# Altium footprint library MyLibrary.PcbLib: 365 footprints (part 10 of 23)
Each footprint in its own frame and in the unit in brackets; x right, y up, seen from the top. Pads: shape width x height; smd on the part's side, far side on the other; paste and mask are expansions set on the pad; w line width, h text height; cw(c..) or ccw(c..) is an arc to the next point about the centre after c.
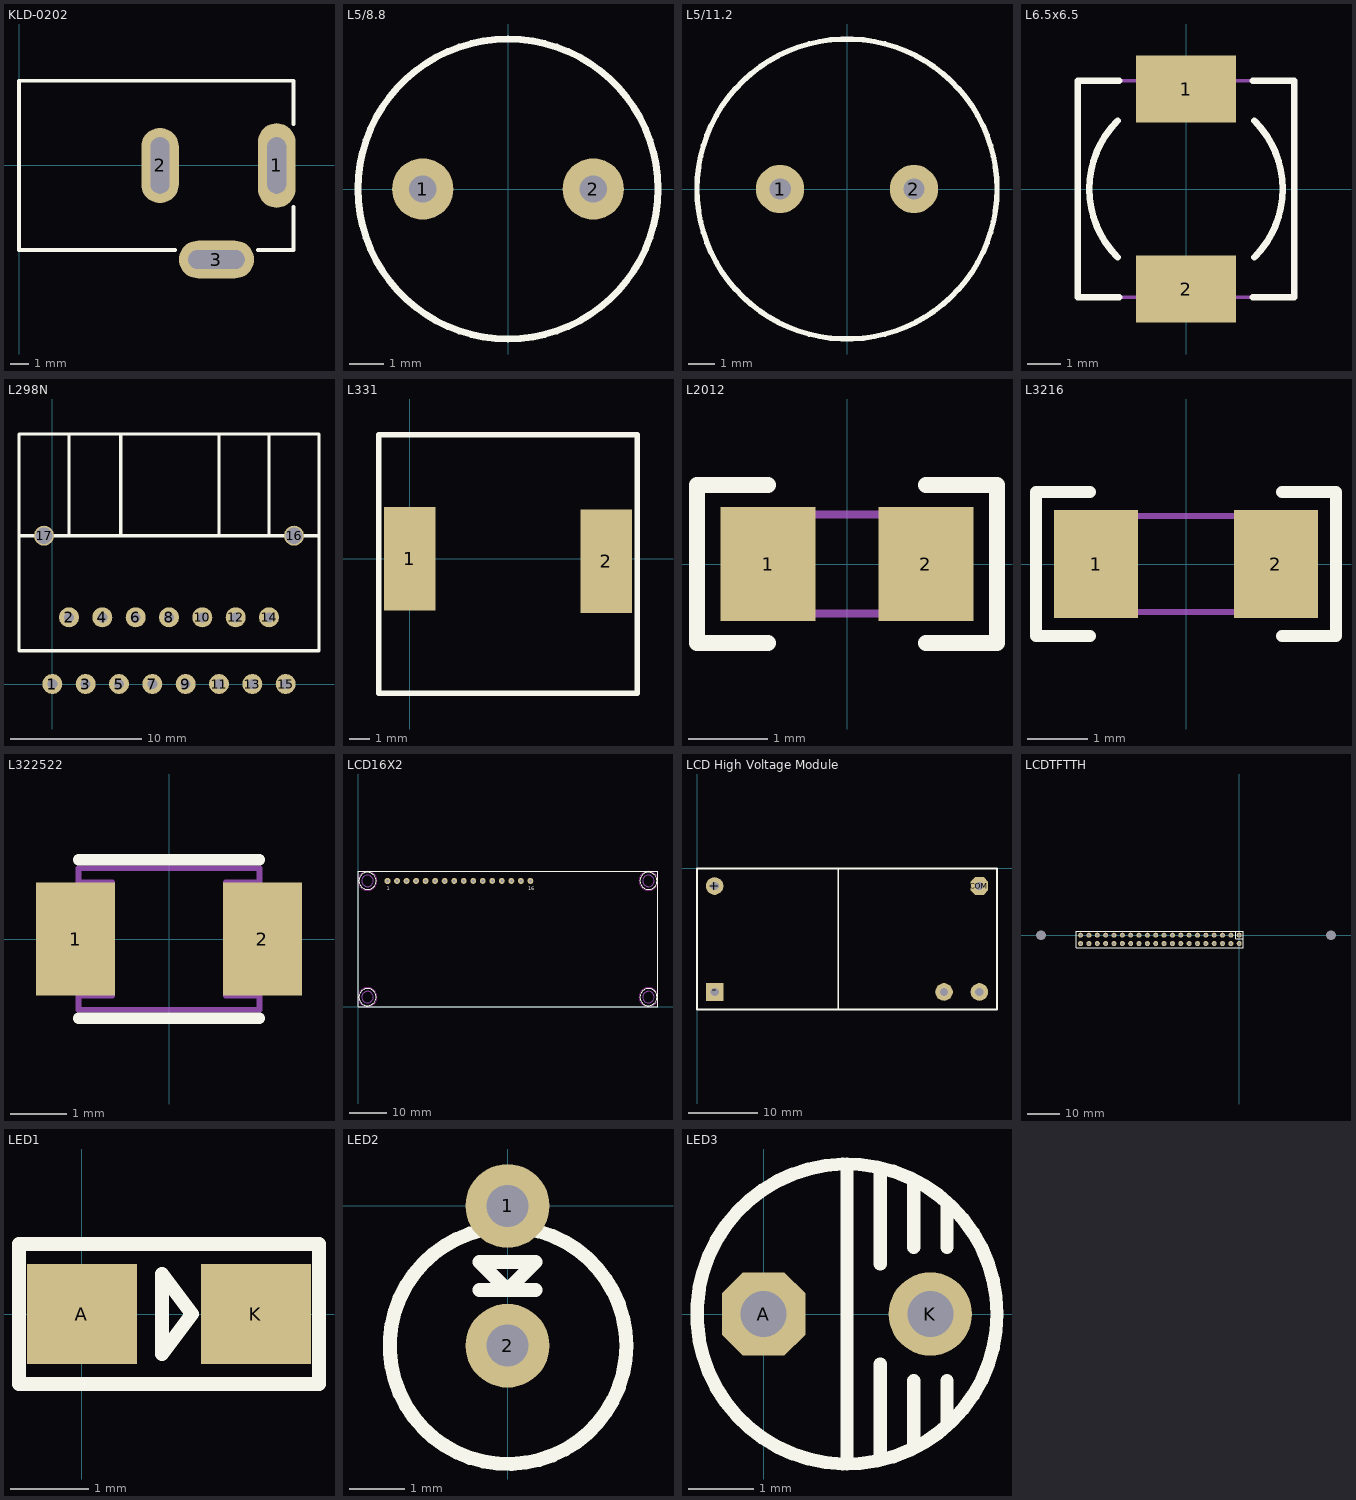
[diagram p9: the footprints below, top view; thin cyan lines are the x and y axes]

## KLD-0202 [mm]
pads (3):
  oval 2x4.5 hole 1 slot 3 at 90 deg: 1(13.7,0)
  oval 2x4 hole 1 slot 3 at 90 deg: 2(7.5,0)
  oval 4x2 hole 1 slot 3 at 0 deg: 3(10.5,-5)
Top Overlay:
  lines w0.2: 8.3,-4.5 0,-4.5 0,4.5 14.6,4.5 14.6,2.2 ; 12.7,-4.5 14.6,-4.5 14.6,-2.2

## L5/8.8 [mm]
pads (2):
  round 1.8 hole 0.8: 1(-2.5,0) 2(2.5,0)
Top Overlay:
  circle w0.2: c0,0 r4.4

## L5/11.2 [mm]
pads (2):
  round 1.8 hole 0.8: 1(-2.5,0) 2(2.5,0)
Top Overlay:
  circle w0.2: c0,0 r5.6

## L6.5x6.5 [mm]
pads (2):
  rect 3x2 smd: 1(0,3) 2(0,-3)
Top Overlay:
  lines w0.2: -2.051,-2.051 cw(c0,0) -2.051,2.051 ; -2,-3.25 -3.25,-3.25 -3.25,3.25 -2,3.25 ; 2,-3.25 3.25,-3.25 3.25,3.25 2,3.25 ; 2.051,-2.051 ccw(c0,0) 2.051,2.051
Mechanical 1:
  lines w0.1: -1.25,-2.25 1.25,-2.25 ; -1.25,2.25 1.25,2.25 ; -1,-3.25 -1,-2.5 1,-2.5 1,-3.25 ; -1,3.25 -1,2.5 1,2.5 1,3.25 ; -3.25,-3.25 3.25,-3.25 3.25,3.25 -3.25,3.25 -3.25,-3.25

## L12.5x12.5 [mil]

## L298N [mil]
pads (17):
  round 60 hole 30: 1(0,0) 2(50,200) 3(100,0) 4(150,200) 5(200,0) 6(250,200) 7(300,0) 8(350,200) 9(400,0) 10(450,200) 11(500,0) 12(550,200) 13(600,0) 14(650,200) 15(700,0)
  round 60 hole 50 unplated: 16(725,445) 17(-25,445)
Top Overlay:
  lines w10: -100,445 800,445 ; 50,445 50,750 ; 205,445 205,750 ; 500,445 500,745 ; 650,445 650,750 ; -100,100 -100,750 800,750 800,100 -100,100

## L331 [mil]
pads (2):
  rect 100x200 smd: 1(0,0) 2(380,-5)
Top Overlay:
  lines w10: -60,-260 -60,240 440,240 440,-260 -60,-260

## L2012 [mm]
pads (2):
  rect 1.2x1.45 smd: 1(-1,0) 2(1,0)
Top Overlay:
  lines w0.2: -1,-1 -1.9,-1 -1.9,1 -1,1 ; 1,-1 1.9,-1 1.9,1 1,1
Mechanical 1:
  lines w0.1: -0.5,-0.625 -0.5,0.625 ; 0.5,-0.625 0.5,0.625 ; -1,-0.625 -1,0.625 1,0.625 1,-0.625 -1,-0.625

## L3216 [mm]
pads (2):
  rect 1.4x1.8 smd: 1(-1.5,0) 2(1.5,0)
Top Overlay:
  lines w0.2: -1.6,-1.2 -2.5,-1.2 -2.5,1.2 -1.6,1.2 ; 1.6,-1.2 2.5,-1.2 2.5,1.2 1.6,1.2
Mechanical 1:
  lines w0.1: -1.1,-0.8 -1.1,0.8 ; 1.1,-0.8 1.1,0.8 ; -1.6,-0.8 -1.6,0.8 1.6,0.8 1.6,-0.8 -1.6,-0.8

## L322522 [mm]
pads (2):
  rect 1.4x2 smd: 1(-1.65,0) 2(1.65,0)
Top Overlay:
  lines w0.2: -1.6,-1.4 1.6,-1.4 ; -1.6,1.4 1.6,1.4
Mechanical 1:
  lines w0.1: -1.6,-1 -1,-1 -1,1 -1.6,1 ; 1.6,-1 1,-1 1,1 1.6,1 ; -1.6,-1.25 -1.6,1.25 1.6,1.25 1.6,-1.25 -1.6,-1.25

## LCD16X2 [mil]
pads (16):
  oct 62x62 hole 32: 1(310,1320)
  round 62 hole 32: 2(410,1320) 3(510,1320) 4(610,1320) 5(710,1320) 6(810,1320) 7(910,1320) 8(1010,1320) 9(1110,1320) 10(1210,1320) 11(1310,1320) 12(1410,1320) 13(1510,1320) 14(1610,1320) 15(1710,1320) 16(1810,1320)
Top Overlay:
  circle w10: c3050,100 r90
  circle w10: c3050,1320 r90
  circle w10: c100,100 r90
  circle w10: c100,1320 r90
  lines w10: 0,0 3150,0 3150,1420 0,1420 0,0
  text "1" at 300,1220 h40
  text "16" at 1790,1220 h40
Keep-Out Layer:
  circle w10: c100,1320 r100
  circle w10: c100,100 r100
  circle w10: c3050,100 r100
  circle w10: c3050,1320 r100
Mechanical 1:
  circle w10: c3050,100 r60
  circle w10: c3050,1320 r60
  circle w10: c100,1320 r60
  circle w10: c100,100 r60

## LCD High Voltage Module [mil]
pads (5):
  round 100 hole 47: +(100,-100) Vout(1400,-700) Vout(1600,-700)
  rect 100x100 hole 47: -(100,-700)
  oct 100x100 hole 47: COM(1600,-100)
Top Overlay:
  lines w10: 800,-800 800,0 ; 0,-800 0,0 1700,0 1700,-800 0,-800

## LCDTFTTH [mil]
pads (42):
  round 60 hole 30: 1(0,0) 2(0,-100) 3(-100,0) 4(-100,-100) 5(-200,0) 6(-200,-100) 7(-300,0) 8(-300,-100) 9(-400,0) 10(-400,-100) 11(-500,0) 12(-500,-100) 13(-600,0) 14(-600,-100) 15(-700,0) 16(-700,-100) 17(-800,0) 18(-800,-100) 19(-900,0) 20(-900,-100) 21(-1000,0) 22(-1000,-100) 23(-1100,0) 24(-1100,-100) 25(-1200,0) 26(-1200,-100) 27(-1300,0) 28(-1300,-100) 29(-1400,0) 30(-1400,-100) 31(-1500,0) 32(-1500,-100) 33(-1600,0) 34(-1600,-100) 35(-1700,0) 36(-1700,-100) 37(-1800,0) 38(-1800,-100) 39(-1900,0) 40(-1900,-100)
  round 80 hole 118.11: 41(-2375,0) 42(1100,0)
Top Overlay:
  lines w10: -40,40 -40,-40 40,-40 ; -1950,-150 50,-150 50,-50 50,50 -1950,50 -1950,-50 -1950,-150

## LED1 [mm]
pads (2):
  rect 1.4x1.27 smd: A(0,0) K(2.21,0)
Top Overlay:
  lines w0.178: 3.011,0.889 3.01,0.889 ; 3.01,0.889 3.01,-0.889 -0.8,-0.889 -0.8,0 -0.8,0.889 3.01,0.889 ; 1.016,-0.508 1.016,0.508 1.397,0 1.016,-0.508

## LED2 [mil]
pads (2):
  round 60 hole 30: 1(0,0) 2(0,-100)
Top Overlay:
  circle w10: c0.35,-100 r84.65
  lines w10: -20,-60 20,-60 ; -20,-40 0,-60 20,-40 -20,-40

## LED3 [mm]
pads (2):
  oct 1.27x1.27 hole 0.7: A(0,0)
  round 1.27 hole 0.7: K(2.54,0)
Top Overlay:
  circle w0.203: c1.27,0 r2.286
  lines w0.203: 1.27,-2.286 1.27,2.286 ; 1.778,-2.159 1.778,-0.762 ; 1.778,0.762 1.778,2.159 ; 2.286,-2.032 2.286,-1.016 ; 2.286,1.016 2.286,2.032 ; 2.794,-1.651 2.794,-1.016 ; 2.794,1.016 2.794,1.651